# Altium integrated library TI Logic Multiplexer.IntLib: 724 symbols (part 3 of 16)
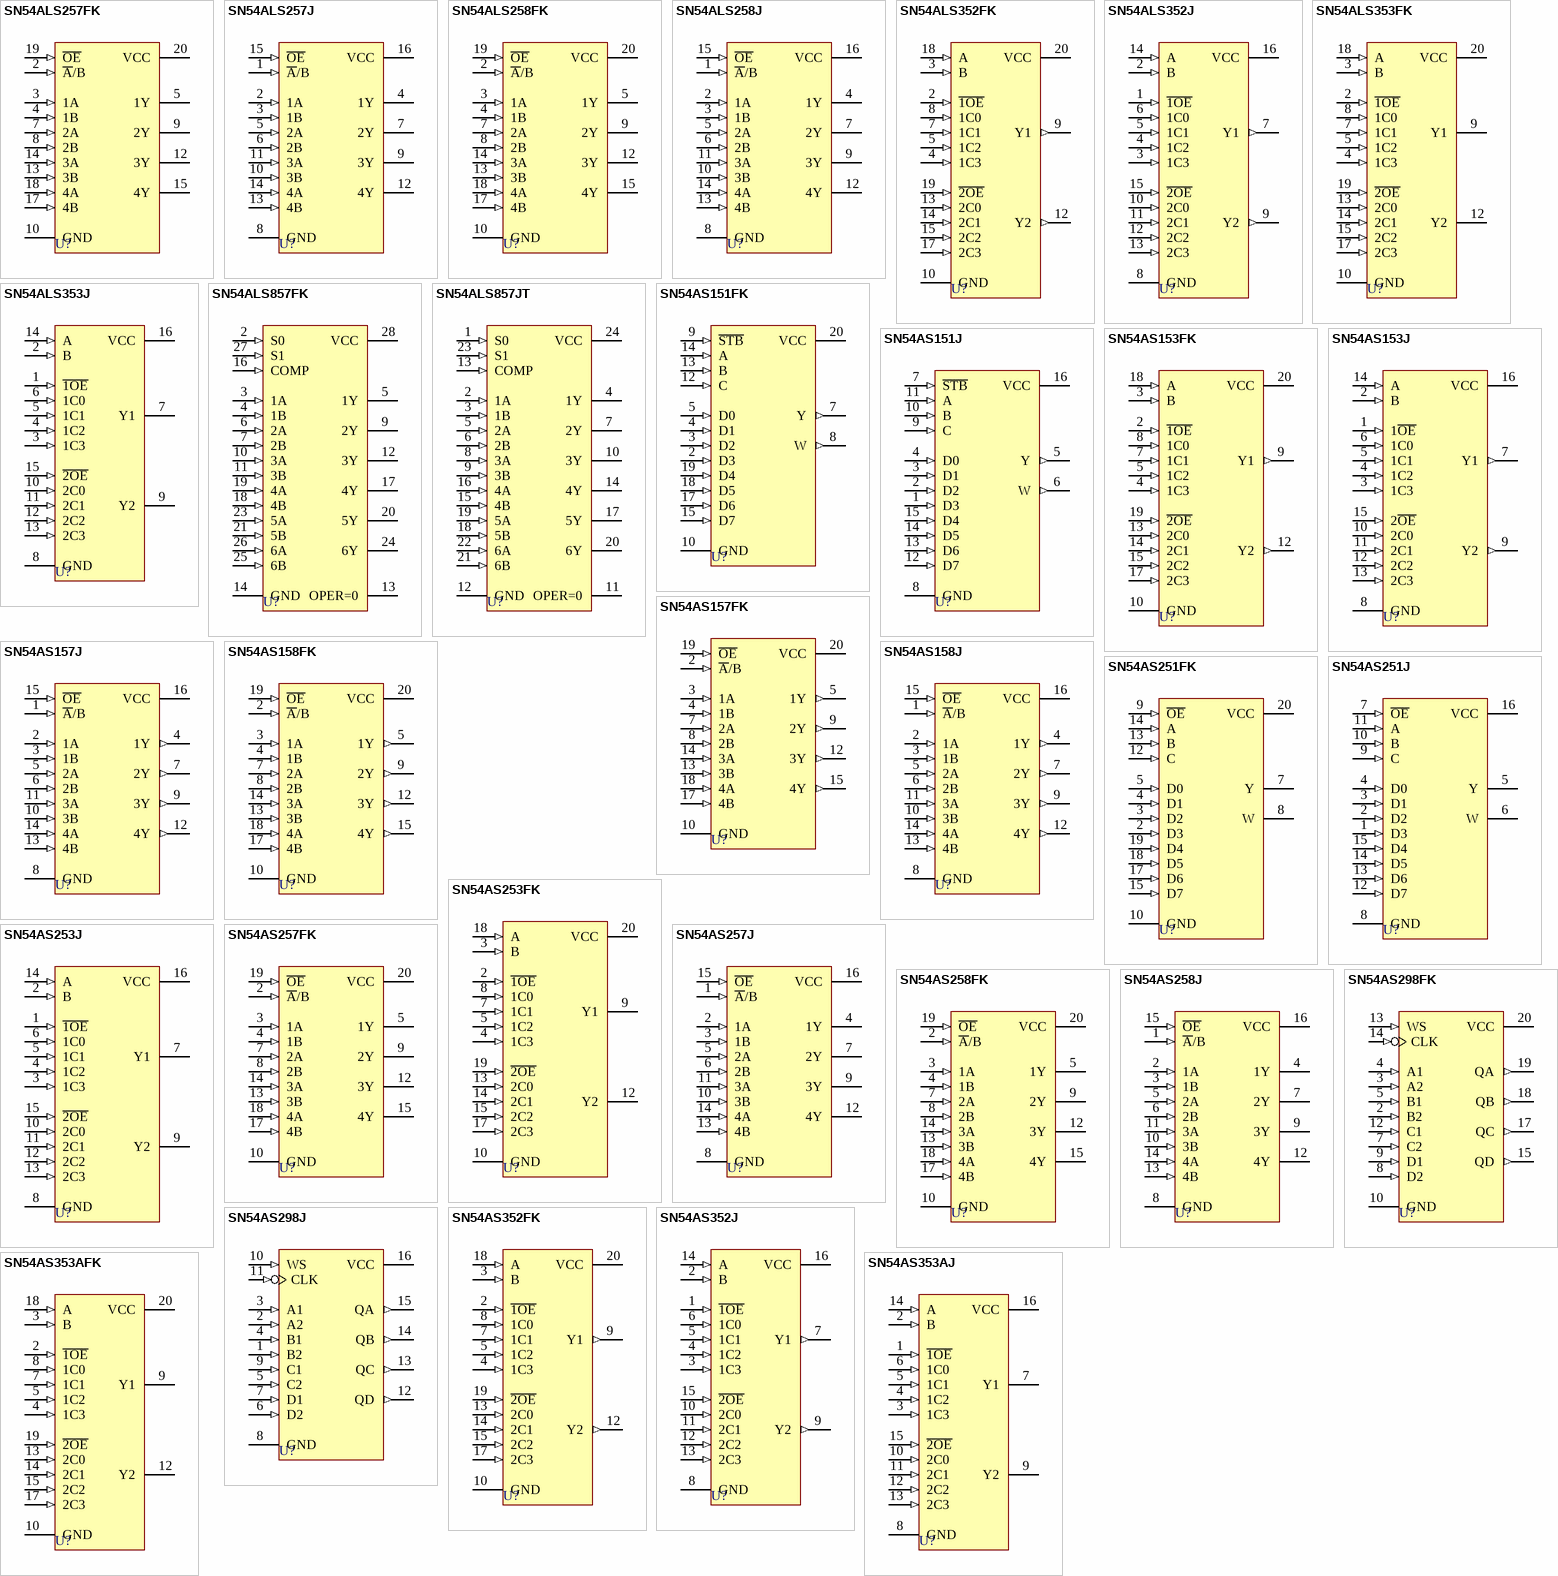
[diagram p26: symbols SN54ALS257FK to SN54AS353AJ]

## SN54AS151J
designator U?
1-of-8 Data Selector/Multiplexer; Published: 8-Jun-2000; LatestRevisionDate: 04-Mar-2005; LatestRevisionNote: Stylized 3D Model Added.; DatasheetVersion: May-1986; PackageVersion: Jun-1999; PackageReference: J016D; Publisher: Altium Limited; PackageDescription: DIP; 16 Leads; Row Spacing 7.62 mm; Pitch 2.54 mm; ComponentLink1Description: Manufacturer Link; ComponentLink1URL: http://www.ti.com/
footprint J016D (DIP; 16 Leads; Row Spacing 7.62 mm; Pitch 2.54 mm)
3D model J016 (DIP; 16 Leads; Row Spacing 7.62 mm; Pitch 2.54 mm)
signal-integrity model SN54AS151J
pins: 1 D3 (in), 2 D2 (in), 3 D1 (in), 4 D0 (in), 5 Y (out), 6 W (out), 7 ~{STB} (in), 8 GND (power), 9 C (in), 10 B (in), 11 A (in), 12 D7 (in), 13 D6 (in), 14 D5 (in), 15 D4 (in), 16 VCC (power)

## SN54AS153FK
designator U?
Dual 1-of-4 Data Selector/Multiplexer; Note: Pins 1, 6, 11 and 16 are not connected and not drawn; Published: 8-Jun-2000; LatestRevisionDate: 17-Jul-2002; LatestRevisionNote: Re-released for DXP Platform.; DatasheetVersion: May-1986; PackageVersion: 1998; PackageReference: FK020; Publisher: Altium Limited; PackageDescription: Leadless Chip Carrier; 20 Terminals; Body 8.9 x 8.9 mm; ComponentLink1Description: Manufacturer Link; ComponentLink1URL: http://www.ti.com/
footprint FK020 (Leadless Chip Carrier; 20 Terminals; Body 8.9 x 8.9 mm)
signal-integrity model SN54AS153FK
pins: 2 ~{1OE} (in), 3 B (in), 4 1C3 (in), 5 1C2 (in), 7 1C1 (in), 8 1C0 (in), 9 Y1 (out), 10 GND (power), 12 Y2 (out), 13 2C0 (in), 14 2C1 (in), 15 2C2 (in), 17 2C3 (in), 18 A (in), 19 ~{2OE} (in), 20 VCC (power)

## SN54AS153J
designator U?
Dual 1-of-4 Data Selector/Multiplexer; Published: 8-Jun-2000; LatestRevisionDate: 04-Mar-2005; LatestRevisionNote: Stylized 3D Model Added.; DatasheetVersion: May-1986; PackageVersion: Jun-1999; PackageReference: J016D; Publisher: Altium Limited; PackageDescription: DIP; 16 Leads; Row Spacing 7.62 mm; Pitch 2.54 mm; ComponentLink1Description: Manufacturer Link; ComponentLink1URL: http://www.ti.com/
footprint J016D (DIP; 16 Leads; Row Spacing 7.62 mm; Pitch 2.54 mm)
3D model J016 (DIP; 16 Leads; Row Spacing 7.62 mm; Pitch 2.54 mm)
signal-integrity model SN54AS153J
pins: 1 1~{OE} (in), 2 B (in), 3 1C3 (in), 4 1C2 (in), 5 1C1 (in), 6 1C0 (in), 7 Y1 (out), 8 GND (power), 9 Y2 (out), 10 2C0 (in), 11 2C1 (in), 12 2C2 (in), 13 2C3 (in), 14 A (in), 15 2~{OE} (in), 16 VCC (power)

## SN54AS157FK
designator U?
Quadruple 1-of-2 Data Selector/Multiplexer; Note: Pins 1, 6, 11 and 16 are not connected and not drawn; Published: 8-Jun-2000; LatestRevisionDate: 17-Jul-2002; LatestRevisionNote: Re-released for DXP Platform.; DatasheetVersion: May-1986; PackageVersion: 1998; PackageReference: FK020; Publisher: Altium Limited; PackageDescription: Leadless Chip Carrier; 20 Terminals; Body 8.9 x 8.9 mm; ComponentLink1Description: Manufacturer Link; ComponentLink1URL: http://www.ti.com/
footprint FK020 (Leadless Chip Carrier; 20 Terminals; Body 8.9 x 8.9 mm)
signal-integrity model SN54AS157FK
pins: 2 ~{A}/B (in), 3 1A (in), 4 1B (in), 5 1Y (out), 7 2A (in), 8 2B (in), 9 2Y (out), 10 GND (power), 12 3Y (out), 13 3B (in), 14 3A (in), 15 4Y (out), 17 4B (in), 18 4A (in), 19 ~{OE} (in), 20 VCC (power)

## SN54AS157J
designator U?
Quadruple 1-of-2 Data Selector/Multiplexer; Published: 8-Jun-2000; LatestRevisionDate: 04-Mar-2005; LatestRevisionNote: Stylized 3D Model Added.; DatasheetVersion: May-1986; PackageVersion: Jun-1999; PackageReference: J016D; Publisher: Altium Limited; PackageDescription: DIP; 16 Leads; Row Spacing 7.62 mm; Pitch 2.54 mm; ComponentLink1Description: Manufacturer Link; ComponentLink1URL: http://www.ti.com/
footprint J016D (DIP; 16 Leads; Row Spacing 7.62 mm; Pitch 2.54 mm)
3D model J016 (DIP; 16 Leads; Row Spacing 7.62 mm; Pitch 2.54 mm)
signal-integrity model SN54AS157J
pins: 1 ~{A}/B (in), 2 1A (in), 3 1B (in), 4 1Y (out), 5 2A (in), 6 2B (in), 7 2Y (out), 8 GND (power), 9 3Y (out), 10 3B (in), 11 3A (in), 12 4Y (out), 13 4B (in), 14 4A (in), 15 ~{OE} (in), 16 VCC (power)

## SN54AS158FK
designator U?
Quadruple 1-of-2 Data Selector/Multiplexer; Note: Pins 1, 6, 11 and 16 are not connected and not drawn; Published: 8-Jun-2000; LatestRevisionDate: 17-Jul-2002; LatestRevisionNote: Re-released for DXP Platform.; DatasheetVersion: May-1986; PackageVersion: 1998; PackageReference: FK020; Publisher: Altium Limited; PackageDescription: Leadless Chip Carrier; 20 Terminals; Body 8.9 x 8.9 mm; ComponentLink1Description: Manufacturer Link; ComponentLink1URL: http://www.ti.com/
footprint FK020 (Leadless Chip Carrier; 20 Terminals; Body 8.9 x 8.9 mm)
signal-integrity model SN54AS158FK
pins: 2 ~{A}/B (in), 3 1A (in), 4 1B (in), 5 1Y (out), 7 2A (in), 8 2B (in), 9 2Y (out), 10 GND (power), 12 3Y (out), 13 3B (in), 14 3A (in), 15 4Y (out), 17 4B (in), 18 4A (in), 19 ~{OE} (in), 20 VCC (power)

## SN54AS158J
designator U?
Quadruple 1-of-2 Data Selector/Multiplexer; Published: 8-Jun-2000; LatestRevisionDate: 04-Mar-2005; LatestRevisionNote: Stylized 3D Model Added.; DatasheetVersion: May-1986; PackageVersion: Jun-1999; PackageReference: J016D; Publisher: Altium Limited; PackageDescription: DIP; 16 Leads; Row Spacing 7.62 mm; Pitch 2.54 mm; ComponentLink1Description: Manufacturer Link; ComponentLink1URL: http://www.ti.com/
footprint J016D (DIP; 16 Leads; Row Spacing 7.62 mm; Pitch 2.54 mm)
3D model J016 (DIP; 16 Leads; Row Spacing 7.62 mm; Pitch 2.54 mm)
signal-integrity model SN54AS158J
pins: 1 ~{A}/B (in), 2 1A (in), 3 1B (in), 4 1Y (out), 5 2A (in), 6 2B (in), 7 2Y (out), 8 GND (power), 9 3Y (out), 10 3B (in), 11 3A (in), 12 4Y (out), 13 4B (in), 14 4A (in), 15 ~{OE} (in), 16 VCC (power)

## SN54AS251FK
designator U?
1-of-8 Data Selector/Multiplexer with 3-State Outputs; Note: Pins 1, 6, 11 and 16 are not connected and not drawn; Published: 8-Jun-2000; LatestRevisionDate: 17-Jul-2002; LatestRevisionNote: Re-released for DXP Platform.; DatasheetVersion: May-1986; PackageVersion: 1998; PackageReference: FK020; Publisher: Altium Limited; PackageDescription: Leadless Chip Carrier; 20 Terminals; Body 8.9 x 8.9 mm; ComponentLink1Description: Manufacturer Link; ComponentLink1URL: http://www.ti.com/
footprint FK020 (Leadless Chip Carrier; 20 Terminals; Body 8.9 x 8.9 mm)
signal-integrity model SN54AS251FK
pins: 2 D3 (in), 3 D2 (in), 4 D1 (in), 5 D0 (in), 7 Y (hiz), 8 W (hiz), 9 ~{OE} (in), 10 GND (power), 12 C (in), 13 B (in), 14 A (in), 15 D7 (in), 17 D6 (in), 18 D5 (in), 19 D4 (in), 20 VCC (power)

## SN54AS251J
designator U?
1-of-8 Data Selector/Multiplexer with 3-State Outputs; Published: 8-Jun-2000; LatestRevisionDate: 04-Mar-2005; LatestRevisionNote: Stylized 3D Model Added.; DatasheetVersion: May-1986; PackageVersion: Jun-1999; PackageReference: J016D; Publisher: Altium Limited; PackageDescription: DIP; 16 Leads; Row Spacing 7.62 mm; Pitch 2.54 mm; ComponentLink1Description: Manufacturer Link; ComponentLink1URL: http://www.ti.com/
footprint J016D (DIP; 16 Leads; Row Spacing 7.62 mm; Pitch 2.54 mm)
3D model J016 (DIP; 16 Leads; Row Spacing 7.62 mm; Pitch 2.54 mm)
signal-integrity model SN54AS251J
pins: 1 D3 (in), 2 D2 (in), 3 D1 (in), 4 D0 (in), 5 Y (hiz), 6 W (hiz), 7 ~{OE} (in), 8 GND (power), 9 C (in), 10 B (in), 11 A (in), 12 D7 (in), 13 D6 (in), 14 D5 (in), 15 D4 (in), 16 VCC (power)

## SN54AS253FK
designator U?
Dual 1-of-4 Data Selector/Multiplexer with 3-State Outputs; Note: Pins 1, 6, 11 and 16 are not connected and not drawn; Published: 8-Jun-2000; LatestRevisionDate: 17-Jul-2002; LatestRevisionNote: Re-released for DXP Platform.; DatasheetVersion: May-1986; PackageVersion: 1998; PackageReference: FK020; Publisher: Altium Limited; PackageDescription: Leadless Chip Carrier; 20 Terminals; Body 8.9 x 8.9 mm; ComponentLink1Description: Manufacturer Link; ComponentLink1URL: http://www.ti.com/
footprint FK020 (Leadless Chip Carrier; 20 Terminals; Body 8.9 x 8.9 mm)
signal-integrity model SN54AS253FK
pins: 2 ~{1OE} (in), 3 B (in), 4 1C3 (in), 5 1C2 (in), 7 1C1 (in), 8 1C0 (in), 9 Y1 (hiz), 10 GND (power), 12 Y2 (hiz), 13 2C0 (in), 14 2C1 (in), 15 2C2 (in), 17 2C3 (in), 18 A (in), 19 ~{2OE} (in), 20 VCC (power)

## SN54AS253J
designator U?
Dual 1-of-4 Data Selector/Multiplexer with 3-State Outputs; Published: 8-Jun-2000; LatestRevisionDate: 04-Mar-2005; LatestRevisionNote: Stylized 3D Model Added.; DatasheetVersion: May-1986; PackageVersion: Jun-1999; PackageReference: J016D; Publisher: Altium Limited; PackageDescription: DIP; 16 Leads; Row Spacing 7.62 mm; Pitch 2.54 mm; ComponentLink1Description: Manufacturer Link; ComponentLink1URL: http://www.ti.com/
footprint J016D (DIP; 16 Leads; Row Spacing 7.62 mm; Pitch 2.54 mm)
3D model J016 (DIP; 16 Leads; Row Spacing 7.62 mm; Pitch 2.54 mm)
signal-integrity model SN54AS253J
pins: 1 ~{1OE} (in), 2 B (in), 3 1C3 (in), 4 1C2 (in), 5 1C1 (in), 6 1C0 (in), 7 Y1 (hiz), 8 GND (power), 9 Y2 (hiz), 10 2C0 (in), 11 2C1 (in), 12 2C2 (in), 13 2C3 (in), 14 A (in), 15 ~{2OE} (in), 16 VCC (power)

## SN54AS257FK
designator U?
Quadruple 2-Line to 1-Line Data Selector/Multiplexer with 3-State Outputs; Note: Pins 1, 6, 11 and 16 are not connected and not drawn; Published: 8-Jun-2000; LatestRevisionDate: 17-Jul-2002; LatestRevisionNote: Re-released for DXP Platform.; DatasheetVersion: May-1986; PackageVersion: 1998; PackageReference: FK020; Publisher: Altium Limited; PackageDescription: Leadless Chip Carrier; 20 Terminals; Body 8.9 x 8.9 mm; ComponentLink1Description: Manufacturer Link; ComponentLink1URL: http://www.ti.com/
footprint FK020 (Leadless Chip Carrier; 20 Terminals; Body 8.9 x 8.9 mm)
signal-integrity model SN54AS257FK
pins: 2 ~{A}/B (in), 3 1A (in), 4 1B (in), 5 1Y (hiz), 7 2A (in), 8 2B (in), 9 2Y (hiz), 10 GND (power), 12 3Y (hiz), 13 3B (in), 14 3A (in), 15 4Y (hiz), 17 4B (in), 18 4A (in), 19 ~{OE} (in), 20 VCC (power)

## SN54AS257J
designator U?
Quadruple 2-Line to 1-Line Data Selector/Multiplexer with 3-State Outputs; Published: 8-Jun-2000; LatestRevisionDate: 04-Mar-2005; LatestRevisionNote: Stylized 3D Model Added.; DatasheetVersion: May-1986; PackageVersion: Jun-1999; PackageReference: J016D; Publisher: Altium Limited; PackageDescription: DIP; 16 Leads; Row Spacing 7.62 mm; Pitch 2.54 mm; ComponentLink1Description: Manufacturer Link; ComponentLink1URL: http://www.ti.com/
footprint J016D (DIP; 16 Leads; Row Spacing 7.62 mm; Pitch 2.54 mm)
3D model J016 (DIP; 16 Leads; Row Spacing 7.62 mm; Pitch 2.54 mm)
signal-integrity model SN54AS257J
pins: 1 ~{A}/B (in), 2 1A (in), 3 1B (in), 4 1Y (hiz), 5 2A (in), 6 2B (in), 7 2Y (hiz), 8 GND (power), 9 3Y (hiz), 10 3B (in), 11 3A (in), 12 4Y (hiz), 13 4B (in), 14 4A (in), 15 ~{OE} (in), 16 VCC (power)

## SN54AS258FK
designator U?
Quadruple 2-Line to 1-Line Data Selector/Multiplexer with 3-State Outputs; Note: Pins No 1,6,11 and 16 are not connected; Published: 8-Jun-2000; LatestRevisionDate: 17-Jul-2002; LatestRevisionNote: Re-released for DXP Platform.; DatasheetVersion: May-1986; PackageVersion: 1998; PackageReference: FK020; Publisher: Altium Limited; PackageDescription: Leadless Chip Carrier; 20 Terminals; Body 8.9 x 8.9 mm; ComponentLink1Description: Manufacturer Link; ComponentLink1URL: http://www.ti.com/
footprint FK020 (Leadless Chip Carrier; 20 Terminals; Body 8.9 x 8.9 mm)
signal-integrity model SN54AS258FK
pins: 2 ~{A}/B (in), 3 1A (in), 4 1B (in), 5 1Y (hiz), 7 2A (in), 8 2B (in), 9 2Y (hiz), 10 GND (power), 12 3Y (hiz), 13 3B (in), 14 3A (in), 15 4Y (hiz), 17 4B (in), 18 4A (in), 19 ~{OE} (in), 20 VCC (power)

## SN54AS258J
designator U?
Quadruple 2-Line to 1-Line Data Selector/Multiplexer with 3-State Outputs; Published: 8-Jun-2000; LatestRevisionDate: 04-Mar-2005; LatestRevisionNote: Stylized 3D Model Added.; DatasheetVersion: May-1986; PackageVersion: Jun-1999; PackageReference: J016D; Publisher: Altium Limited; PackageDescription: DIP; 16 Leads; Row Spacing 7.62 mm; Pitch 2.54 mm; ComponentLink1Description: Manufacturer Link; ComponentLink1URL: http://www.ti.com/
footprint J016D (DIP; 16 Leads; Row Spacing 7.62 mm; Pitch 2.54 mm)
3D model J016 (DIP; 16 Leads; Row Spacing 7.62 mm; Pitch 2.54 mm)
signal-integrity model SN54AS258J
pins: 1 ~{A}/B (in), 2 1A (in), 3 1B (in), 4 1Y (hiz), 5 2A (in), 6 2B (in), 7 2Y (hiz), 8 GND (power), 9 3Y (hiz), 10 3B (in), 11 3A (in), 12 4Y (hiz), 13 4B (in), 14 4A (in), 15 ~{OE} (in), 16 VCC (power)

## SN54AS298FK
designator U?
Quadruple 2-Input Multiplexer with Storage; Note: Pins 1, 6, 11 and 16 are not connected and not drawn; Published: 8-Jun-2000; LatestRevisionDate: 17-Jul-2002; LatestRevisionNote: Re-released for DXP Platform.; DatasheetVersion: May-1986; PackageVersion: 1998; PackageReference: FK020; Publisher: Altium Limited; PackageDescription: Leadless Chip Carrier; 20 Terminals; Body 8.9 x 8.9 mm; ComponentLink1Description: Manufacturer Link; ComponentLink1URL: http://www.ti.com/
footprint FK020 (Leadless Chip Carrier; 20 Terminals; Body 8.9 x 8.9 mm)
signal-integrity model SN54AS298FK
pins: 2 B2 (in), 3 A2 (in), 4 A1 (in), 5 B1 (in), 7 C2 (in), 8 D2 (in), 9 D1 (in), 10 GND (power), 12 C1 (in), 13 WS (in), 14 CLK (in), 15 QD (out), 17 QC (out), 18 QB (out), 19 QA (out), 20 VCC (power)

## SN54AS298J
designator U?
Quadruple 2-Input Multiplexer with Storage; Published: 8-Jun-2000; LatestRevisionDate: 04-Mar-2005; LatestRevisionNote: Stylized 3D Model Added.; DatasheetVersion: May-1986; PackageVersion: Jun-1999; PackageReference: J016D; Publisher: Altium Limited; PackageDescription: DIP; 16 Leads; Row Spacing 7.62 mm; Pitch 2.54 mm; ComponentLink1Description: Manufacturer Link; ComponentLink1URL: http://www.ti.com/
footprint J016D (DIP; 16 Leads; Row Spacing 7.62 mm; Pitch 2.54 mm)
3D model J016 (DIP; 16 Leads; Row Spacing 7.62 mm; Pitch 2.54 mm)
signal-integrity model SN54AS298J
pins: 1 B2 (in), 2 A2 (in), 3 A1 (in), 4 B1 (in), 5 C2 (in), 6 D2 (in), 7 D1 (in), 8 GND (power), 9 C1 (in), 10 WS (in), 11 CLK (in), 12 QD (out), 13 QC (out), 14 QB (out), 15 QA (out), 16 VCC (power)

## SN54AS352FK
designator U?
Dual 4-Line to 1-Line Data Selector/Multiplexer; Note: Pins 1, 6, 11 and 16 are not connected and not drawn; Published: 8-Jun-2000; LatestRevisionDate: 17-Jul-2002; LatestRevisionNote: Re-released for DXP Platform.; DatasheetVersion: May-1986; PackageVersion: 1998; PackageReference: FK020; Publisher: Altium Limited; PackageDescription: Leadless Chip Carrier; 20 Terminals; Body 8.9 x 8.9 mm; ComponentLink1Description: Manufacturer Link; ComponentLink1URL: http://www.ti.com/
footprint FK020 (Leadless Chip Carrier; 20 Terminals; Body 8.9 x 8.9 mm)
signal-integrity model SN54AS352FK
pins: 2 ~{1OE} (in), 3 B (in), 4 1C3 (in), 5 1C2 (in), 7 1C1 (in), 8 1C0 (in), 9 Y1 (out), 10 GND (power), 12 Y2 (out), 13 2C0 (in), 14 2C1 (in), 15 2C2 (in), 17 2C3 (in), 18 A (in), 19 ~{2OE} (in), 20 VCC (power)

## SN54AS352J
designator U?
Dual 4-Line to 1-Line Data Selector/Multiplexer; Published: 8-Jun-2000; LatestRevisionDate: 04-Mar-2005; LatestRevisionNote: Stylized 3D Model Added.; DatasheetVersion: May-1986; PackageVersion: Jun-1999; PackageReference: J016D; Publisher: Altium Limited; PackageDescription: DIP; 16 Leads; Row Spacing 7.62 mm; Pitch 2.54 mm; ComponentLink1Description: Manufacturer Link; ComponentLink1URL: http://www.ti.com/
footprint J016D (DIP; 16 Leads; Row Spacing 7.62 mm; Pitch 2.54 mm)
3D model J016 (DIP; 16 Leads; Row Spacing 7.62 mm; Pitch 2.54 mm)
signal-integrity model SN54AS352J
pins: 1 ~{1OE} (in), 2 B (in), 3 1C3 (in), 4 1C2 (in), 5 1C1 (in), 6 1C0 (in), 7 Y1 (out), 8 GND (power), 9 Y2 (out), 10 2C0 (in), 11 2C1 (in), 12 2C2 (in), 13 2C3 (in), 14 A (in), 15 ~{2OE} (in), 16 VCC (power)

## SN54AS353AFK
designator U?
Dual 1-of-4 Data Selector/Multiplexer with 3-State Outputs; Note: Pins 1, 6, 11 and 16 are not connected and not drawn; Published: 8-Jun-2000; LatestRevisionDate: 17-Jul-2002; LatestRevisionNote: Re-released for DXP Platform.; DatasheetVersion: May-1986; PackageVersion: 1998; PackageReference: FK020; Publisher: Altium Limited; PackageDescription: Leadless Chip Carrier; 20 Terminals; Body 8.9 x 8.9 mm; ComponentLink1Description: Manufacturer Link; ComponentLink1URL: http://www.ti.com/
footprint FK020 (Leadless Chip Carrier; 20 Terminals; Body 8.9 x 8.9 mm)
signal-integrity model SN54AS353AFK
pins: 2 ~{1OE} (in), 3 B (in), 4 1C3 (in), 5 1C2 (in), 7 1C1 (in), 8 1C0 (in), 9 Y1 (hiz), 10 GND (power), 12 Y2 (hiz), 13 2C0 (in), 14 2C1 (in), 15 2C2 (in), 17 2C3 (in), 18 A (in), 19 ~{2OE} (in), 20 VCC (power)

## SN54AS353AJ
designator U?
Dual 1-of-4 Data Selector/Multiplexer with 3-State Outputs; Published: 8-Jun-2000; LatestRevisionDate: 04-Mar-2005; LatestRevisionNote: Stylized 3D Model Added.; DatasheetVersion: May-1986; PackageVersion: Jun-1999; PackageReference: J016D; Publisher: Altium Limited; PackageDescription: DIP; 16 Leads; Row Spacing 7.62 mm; Pitch 2.54 mm; ComponentLink1Description: Manufacturer Link; ComponentLink1URL: http://www.ti.com/
footprint J016D (DIP; 16 Leads; Row Spacing 7.62 mm; Pitch 2.54 mm)
3D model J016 (DIP; 16 Leads; Row Spacing 7.62 mm; Pitch 2.54 mm)
signal-integrity model SN54AS353AJ
pins: 1 ~{1OE} (in), 2 B (in), 3 1C3 (in), 4 1C2 (in), 5 1C1 (in), 6 1C0 (in), 7 Y1 (hiz), 8 GND (power), 9 Y2 (hiz), 10 2C0 (in), 11 2C1 (in), 12 2C2 (in), 13 2C3 (in), 14 A (in), 15 ~{2OE} (in), 16 VCC (power)

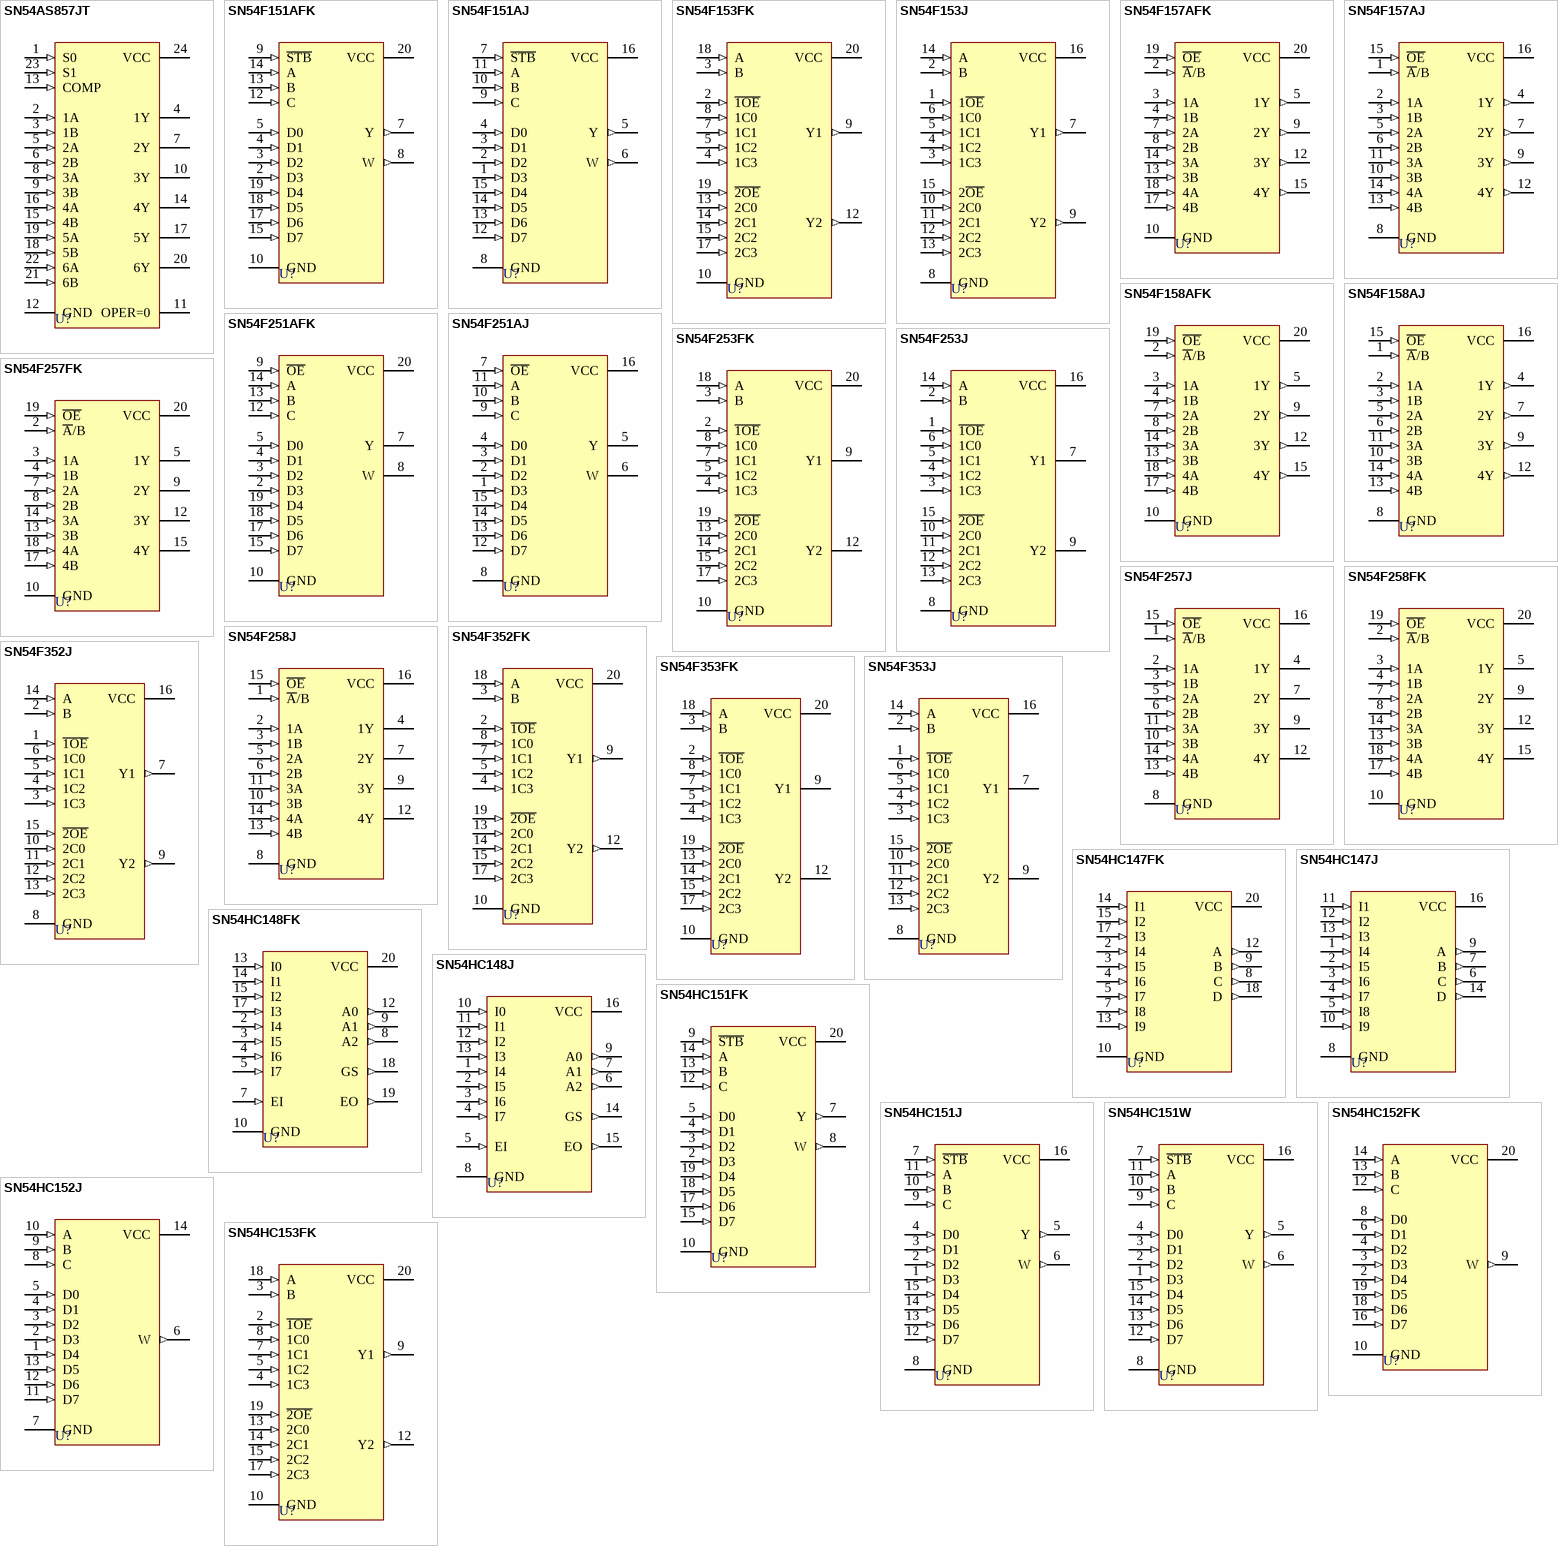
[diagram p4: symbols SN54AS857JT to SN54HC153FK]

## SN54AS857JT
designator U?
Hex 2-to-1 Universal Multiplexer; Published: 8-Jun-2000; LatestRevisionDate: 04-Mar-2005; LatestRevisionNote: Stylized 3D Model Added.; DatasheetVersion: May-1986; PackageVersion: Jan-1997; PackageReference: JT024D; Publisher: Altium Limited; PackageDescription: DIP; 24 Leads; Row Spacing 7.62 mm; Pitch 2.54 mm; Code_JEDEC: MS-001-AF; ComponentLink1Description: Manufacturer Link; ComponentLink1URL: http://www.ti.com/
footprint JT024D (DIP; 24 Leads; Row Spacing 7.62 mm; Pitch 2.54 mm)
3D model JT024 (DIP; 24 Leads; Row Spacing 7.62 mm; Pitch 2.54 mm)
signal-integrity model SN54AS857JT
pins: 1 S0 (in), 2 1A (in), 3 1B (in), 4 1Y (hiz), 5 2A (in), 6 2B (in), 7 2Y (hiz), 8 3A (in), 9 3B (in), 10 3Y (hiz), 11 OPER=0 (hiz), 12 GND (power), 13 COMP (in), 14 4Y (hiz), 15 4B (in), 16 4A (in), 17 5Y (hiz), 18 5B (in), 19 5A (in), 20 6Y (hiz), 21 6B (in), 22 6A (in), 23 S1 (in), 24 VCC (power)

## SN54F151AFK
designator U?
1-of-8 Data Selector/Multiplexer; Note: Pins 1, 6, 11 and 16 are NC & not drawn.; Published: 8-Jun-2000; LatestRevisionDate: 17-Jul-2002; LatestRevisionNote: Re-released for DXP Platform.; DatasheetVersion: Jan-1989; PackageVersion: 1998; PackageReference: FK020; Publisher: Altium Limited; PackageDescription: Leadless Chip Carrier; 20 Terminals; Body 8.9 x 8.9 mm; ComponentLink1Description: Manufacturer Link; ComponentLink1URL: http://www.ti.com/
footprint FK020 (Leadless Chip Carrier; 20 Terminals; Body 8.9 x 8.9 mm)
simulation model SN74F151A (SIMCODE)
signal-integrity model SN54F151AFK
pins: 2 D3 (in), 3 D2 (in), 4 D1 (in), 5 D0 (in), 7 Y (out), 8 W (out), 9 ~{STB} (in), 10 GND (power), 12 C (in), 13 B (in), 14 A (in), 15 D7 (in), 17 D6 (in), 18 D5 (in), 19 D4 (in), 20 VCC (power)

## SN54F151AJ
designator U?
1-of-8 Data Selector/Multiplexer; Published: 8-Jun-2000; LatestRevisionDate: 04-Mar-2005; LatestRevisionNote: Stylized 3D Model Added.; DatasheetVersion: Jan-1989; PackageVersion: Jun-1999; PackageReference: J016D; Publisher: Altium Limited; PackageDescription: DIP; 16 Leads; Row Spacing 7.62 mm; Pitch 2.54 mm; ComponentLink1Description: Manufacturer Link; ComponentLink1URL: http://www.ti.com/
footprint J016D (DIP; 16 Leads; Row Spacing 7.62 mm; Pitch 2.54 mm)
3D model J016 (DIP; 16 Leads; Row Spacing 7.62 mm; Pitch 2.54 mm)
simulation model SN74F151A (SIMCODE)
signal-integrity model SN54F151AJ
pins: 1 D3 (in), 2 D2 (in), 3 D1 (in), 4 D0 (in), 5 Y (out), 6 W (out), 7 ~{STB} (in), 8 GND (power), 9 C (in), 10 B (in), 11 A (in), 12 D7 (in), 13 D6 (in), 14 D5 (in), 15 D4 (in), 16 VCC (power)

## SN54F153FK
designator U?
Dual 1-of-4 Data Selector/Multiplexer; Note: Pins 1, 6, 11 and 16 are not connected and not drawn; Published: 8-Jun-2000; LatestRevisionDate: 17-Jul-2002; LatestRevisionNote: Re-released for DXP Platform.; DatasheetVersion: Oct-1993; PackageVersion: 1998; PackageReference: FK020; Publisher: Altium Limited; PackageDescription: Leadless Chip Carrier; 20 Terminals; Body 8.9 x 8.9 mm; ComponentLink1Description: Manufacturer Link; ComponentLink1URL: http://www.ti.com/; ComponentLink2Description: Datasheet; ComponentLink2URL: http://www-s.ti.com/sc/ds/sn74f153.pdf
footprint FK020 (Leadless Chip Carrier; 20 Terminals; Body 8.9 x 8.9 mm)
signal-integrity model SN54F153FK
pins: 2 ~{1OE} (in), 3 B (in), 4 1C3 (in), 5 1C2 (in), 7 1C1 (in), 8 1C0 (in), 9 Y1 (out), 10 GND (power), 12 Y2 (out), 13 2C0 (in), 14 2C1 (in), 15 2C2 (in), 17 2C3 (in), 18 A (in), 19 ~{2OE} (in), 20 VCC (power)

## SN54F153J
designator U?
Dual 1-of-4 Data Selector/Multiplexer; Published: 8-Jun-2000; LatestRevisionDate: 04-Mar-2005; LatestRevisionNote: Stylized 3D Model Added.; DatasheetVersion: Oct-1993; PackageVersion: Jun-1999; PackageReference: J016; Publisher: Altium Limited; PackageDescription: DIP; 16 Leads; Row Spacing 7.62 mm; Pitch 2.54 mm; ComponentLink1Description: Manufacturer Link; ComponentLink1URL: http://www.ti.com/; ComponentLink2Description: Datasheet; ComponentLink2URL: http://www-s.ti.com/sc/ds/sn74f153.pdf
footprint J016 (DIP; 16 Leads; Row Spacing 7.62 mm; Pitch 2.54 mm)
3D model J016 (DIP; 16 Leads; Row Spacing 7.62 mm; Pitch 2.54 mm)
signal-integrity model SN54F153J
pins: 1 1~{OE} (in), 2 B (in), 3 1C3 (in), 4 1C2 (in), 5 1C1 (in), 6 1C0 (in), 7 Y1 (out), 8 GND (power), 9 Y2 (out), 10 2C0 (in), 11 2C1 (in), 12 2C2 (in), 13 2C3 (in), 14 A (in), 15 2~{OE} (in), 16 VCC (power)

## SN54F157AFK
designator U?
Quadruple 2-Line to 1-Line Data Selector/Multiplexer; Note: Pins 1, 6, 11 and 16 are NC & not drawn.; Published: 8-Jun-2000; LatestRevisionDate: 17-Jul-2002; LatestRevisionNote: Re-released for DXP Platform.; DatasheetVersion: Oct-1993; PackageVersion: 1998; PackageReference: FK020; Publisher: Altium Limited; PackageDescription: Leadless Chip Carrier; 20 Terminals; Body 8.9 x 8.9 mm; ComponentLink1Description: Manufacturer Link; ComponentLink1URL: http://www.ti.com/; ComponentLink2Description: Datasheet; ComponentLink2URL: http://www-s.ti.com/sc/ds/sn74f157a.pdf
footprint FK020 (Leadless Chip Carrier; 20 Terminals; Body 8.9 x 8.9 mm)
simulation model SN74F157A (SIMCODE)
signal-integrity model SN54F157AFK
pins: 2 ~{A}/B (in), 3 1A (in), 4 1B (in), 5 1Y (out), 7 2A (in), 8 2B (in), 9 2Y (out), 10 GND (power), 12 3Y (out), 13 3B (in), 14 3A (in), 15 4Y (out), 17 4B (in), 18 4A (in), 19 ~{OE} (in), 20 VCC (power)

## SN54F157AJ
designator U?
Quadruple 2-Line to 1-Line Data Selector/Multiplexer; Published: 8-Jun-2000; LatestRevisionDate: 04-Mar-2005; LatestRevisionNote: Stylized 3D Model Added.; DatasheetVersion: Oct-1993; PackageVersion: Jun-1999; PackageReference: J016; Publisher: Altium Limited; PackageDescription: DIP; 16 Leads; Row Spacing 7.62 mm; Pitch 2.54 mm; ComponentLink1Description: Manufacturer Link; ComponentLink1URL: http://www.ti.com/; ComponentLink2Description: Datasheet; ComponentLink2URL: http://www-s.ti.com/sc/ds/sn74f157a.pdf
footprint J016 (DIP; 16 Leads; Row Spacing 7.62 mm; Pitch 2.54 mm)
3D model J016 (DIP; 16 Leads; Row Spacing 7.62 mm; Pitch 2.54 mm)
simulation model SN74F157A (SIMCODE)
signal-integrity model SN54F157AJ
pins: 1 ~{A}/B (in), 2 1A (in), 3 1B (in), 4 1Y (out), 5 2A (in), 6 2B (in), 7 2Y (out), 8 GND (power), 9 3Y (out), 10 3B (in), 11 3A (in), 12 4Y (out), 13 4B (in), 14 4A (in), 15 ~{OE} (in), 16 VCC (power)

## SN54F158AFK
designator U?
Quadruple 2-Line to 1-Line Data Selector/Multiplexer; Note: Pins 1, 6, 11 and 16 are NC & not drawn.; ComponentAvailability: Not Available; Published: 8-Jun-2000; LatestRevisionDate: 17-Jul-2002; LatestRevisionNote: Re-released for DXP Platform.; DatasheetVersion: Jan-1989; PackageVersion: 1998; PackageReference: FK020; Publisher: Altium Limited; PackageDescription: Leadless Chip Carrier; 20 Terminals; Body 8.9 x 8.9 mm; ComponentLink1Description: Manufacturer Link; ComponentLink1URL: http://www.ti.com/; ComponentLink2Description: Datasheet; ComponentLink2URL: http://www-s.ti.com/sc/ds/sn74f158a.pdf; ComponentLink3Description: Discontinuation Notice; ComponentLink3URL: http://focus.ti.com/pdfs/mltry/obsolete.pdf
footprint FK020 (Leadless Chip Carrier; 20 Terminals; Body 8.9 x 8.9 mm)
simulation model SN74F158A (SIMCODE)
signal-integrity model SN54F158AFK
pins: 2 ~{A}/B (in), 3 1A (in), 4 1B (in), 5 1Y (out), 7 2A (in), 8 2B (in), 9 2Y (out), 10 GND (power), 12 3Y (out), 13 3B (in), 14 3A (in), 15 4Y (out), 17 4B (in), 18 4A (in), 19 ~{OE} (in), 20 VCC (power)

## SN54F158AJ
designator U?
Quadruple 2-Line to 1-Line Data Selector/Multiplexer; ComponentAvailability: Not Available; Published: 8-Jun-2000; LatestRevisionDate: 04-Mar-2005; LatestRevisionNote: Stylized 3D Model Added.; DatasheetVersion: Jan-1989; PackageVersion: Jun-1999; PackageReference: J016D; Publisher: Altium Limited; PackageDescription: DIP; 16 Leads; Row Spacing 7.62 mm; Pitch 2.54 mm; ComponentLink1Description: Manufacturer Link; ComponentLink1URL: http://www.ti.com/; ComponentLink2Description: Datasheet; ComponentLink2URL: http://www-s.ti.com/sc/ds/sn74f158a.pdf; ComponentLink3Description: Discontinuation Notice; ComponentLink3URL: http://focus.ti.com/pdfs/mltry/obsolete.pdf
footprint J016D (DIP; 16 Leads; Row Spacing 7.62 mm; Pitch 2.54 mm)
3D model J016 (DIP; 16 Leads; Row Spacing 7.62 mm; Pitch 2.54 mm)
simulation model SN74F158A (SIMCODE)
signal-integrity model SN54F158AJ
pins: 1 ~{A}/B (in), 2 1A (in), 3 1B (in), 4 1Y (out), 5 2A (in), 6 2B (in), 7 2Y (out), 8 GND (power), 9 3Y (out), 10 3B (in), 11 3A (in), 12 4Y (out), 13 4B (in), 14 4A (in), 15 ~{OE} (in), 16 VCC (power)

## SN54F251AFK
designator U?
1-of-8 Data Selector/Multiplexer with 3-State Outputs; Note: Pins 1, 6, 11 and 16 are NC & not drawn.; Published: 8-Jun-2000; LatestRevisionDate: 17-Jul-2002; LatestRevisionNote: Re-released for DXP Platform.; DatasheetVersion: Jan-1989; PackageVersion: 1998; PackageReference: FK020; Publisher: Altium Limited; PackageDescription: Leadless Chip Carrier; 20 Terminals; Body 8.9 x 8.9 mm; ComponentLink1Description: Manufacturer Link; ComponentLink1URL: http://www.ti.com/
footprint FK020 (Leadless Chip Carrier; 20 Terminals; Body 8.9 x 8.9 mm)
simulation model SN74F251A (SIMCODE)
signal-integrity model SN54F251AFK
pins: 2 D3 (in), 3 D2 (in), 4 D1 (in), 5 D0 (in), 7 Y (hiz), 8 W (hiz), 9 ~{OE} (in), 10 GND (power), 12 C (in), 13 B (in), 14 A (in), 15 D7 (in), 17 D6 (in), 18 D5 (in), 19 D4 (in), 20 VCC (power)

## SN54F251AJ
designator U?
1-of-8 Data Selector/Multiplexer with 3-State Outputs; Published: 8-Jun-2000; LatestRevisionDate: 04-Mar-2005; LatestRevisionNote: Stylized 3D Model Added.; DatasheetVersion: Jan-1989; PackageVersion: Jun-1999; PackageReference: J016D; Publisher: Altium Limited; PackageDescription: DIP; 16 Leads; Row Spacing 7.62 mm; Pitch 2.54 mm; ComponentLink1Description: Manufacturer Link; ComponentLink1URL: http://www.ti.com/
footprint J016D (DIP; 16 Leads; Row Spacing 7.62 mm; Pitch 2.54 mm)
3D model J016 (DIP; 16 Leads; Row Spacing 7.62 mm; Pitch 2.54 mm)
simulation model SN74F251A (SIMCODE)
signal-integrity model SN54F251AJ
pins: 1 D3 (in), 2 D2 (in), 3 D1 (in), 4 D0 (in), 5 Y (hiz), 6 W (hiz), 7 ~{OE} (in), 8 GND (power), 9 C (in), 10 B (in), 11 A (in), 12 D7 (in), 13 D6 (in), 14 D5 (in), 15 D4 (in), 16 VCC (power)

## SN54F253FK
designator U?
Dual 1-of-4 Data Selector/Multiplexer with 3-State Outputs; Note: Pins 1, 6, 11 and 16 are NC & not drawn.; Published: 8-Jun-2000; LatestRevisionDate: 17-Jul-2002; LatestRevisionNote: Re-released for DXP Platform.; DatasheetVersion: Oct-1993; PackageVersion: 1998; PackageReference: FK020; Publisher: Altium Limited; PackageDescription: Leadless Chip Carrier; 20 Terminals; Body 8.9 x 8.9 mm; ComponentLink1Description: Manufacturer Link; ComponentLink1URL: http://www.ti.com/; ComponentLink2Description: Datasheet; ComponentLink2URL: http://www-s.ti.com/sc/ds/sn74f253.pdf
footprint FK020 (Leadless Chip Carrier; 20 Terminals; Body 8.9 x 8.9 mm)
simulation model SN74F253 (SIMCODE)
signal-integrity model SN54F253FK
pins: 2 ~{1OE} (in), 3 B (in), 4 1C3 (in), 5 1C2 (in), 7 1C1 (in), 8 1C0 (in), 9 Y1 (hiz), 10 GND (power), 12 Y2 (hiz), 13 2C0 (in), 14 2C1 (in), 15 2C2 (in), 17 2C3 (in), 18 A (in), 19 ~{2OE} (in), 20 VCC (power)

## SN54F253J
designator U?
Dual 1-of-4 Data Selector/Multiplexer with 3-State Outputs; Published: 8-Jun-2000; LatestRevisionDate: 04-Mar-2005; LatestRevisionNote: Stylized 3D Model Added.; DatasheetVersion: Oct-1993; PackageVersion: Jun-1999; PackageReference: J016; Publisher: Altium Limited; PackageDescription: DIP; 16 Leads; Row Spacing 7.62 mm; Pitch 2.54 mm; ComponentLink1Description: Manufacturer Link; ComponentLink1URL: http://www.ti.com/; ComponentLink2Description: Datasheet; ComponentLink2URL: http://www-s.ti.com/sc/ds/sn74f253.pdf
footprint J016 (DIP; 16 Leads; Row Spacing 7.62 mm; Pitch 2.54 mm)
3D model J016 (DIP; 16 Leads; Row Spacing 7.62 mm; Pitch 2.54 mm)
simulation model SN74F253 (SIMCODE)
signal-integrity model SN54F253J
pins: 1 ~{1OE} (in), 2 B (in), 3 1C3 (in), 4 1C2 (in), 5 1C1 (in), 6 1C0 (in), 7 Y1 (hiz), 8 GND (power), 9 Y2 (hiz), 10 2C0 (in), 11 2C1 (in), 12 2C2 (in), 13 2C3 (in), 14 A (in), 15 ~{2OE} (in), 16 VCC (power)

## SN54F257FK
designator U?
Quadruple 2-Line to 1-Line Data Selector/Multiplexer with 3-State Outputs; Note: Pins 1, 6, 11 and 16 are NC & not drawn.; Published: 8-Jun-2000; LatestRevisionDate: 17-Jul-2002; LatestRevisionNote: Re-released for DXP Platform.; DatasheetVersion: Jan-1989; PackageVersion: 1998; PackageReference: FK020; Publisher: Altium Limited; PackageDescription: Leadless Chip Carrier; 20 Terminals; Body 8.9 x 8.9 mm; ComponentLink1Description: Manufacturer Link; ComponentLink1URL: http://www.ti.com/; ComponentLink2Description: Datasheet; ComponentLink2URL: http://www-s.ti.com/sc/ds/sn74f257.pdf
footprint FK020 (Leadless Chip Carrier; 20 Terminals; Body 8.9 x 8.9 mm)
simulation model SN74F257 (SIMCODE)
signal-integrity model SN54F257FK
pins: 2 ~{A}/B (in), 3 1A (in), 4 1B (in), 5 1Y (hiz), 7 2A (in), 8 2B (in), 9 2Y (hiz), 10 GND (power), 12 3Y (hiz), 13 3B (in), 14 3A (in), 15 4Y (hiz), 17 4B (in), 18 4A (in), 19 ~{OE} (in), 20 VCC (power)

## SN54F257J
designator U?
Quadruple 2-Line to 1-Line Data Selector/Multiplexer with 3-State Outputs; Published: 8-Jun-2000; LatestRevisionDate: 04-Mar-2005; LatestRevisionNote: Stylized 3D Model Added.; DatasheetVersion: Jan-1989; PackageVersion: Jun-1999; PackageReference: J016D; Publisher: Altium Limited; PackageDescription: DIP; 16 Leads; Row Spacing 7.62 mm; Pitch 2.54 mm; ComponentLink1Description: Manufacturer Link; ComponentLink1URL: http://www.ti.com/; ComponentLink2Description: Datasheet; ComponentLink2URL: http://www-s.ti.com/sc/ds/sn74f257.pdf
footprint J016D (DIP; 16 Leads; Row Spacing 7.62 mm; Pitch 2.54 mm)
3D model J016 (DIP; 16 Leads; Row Spacing 7.62 mm; Pitch 2.54 mm)
simulation model SN74F257 (SIMCODE)
signal-integrity model SN54F257J
pins: 1 ~{A}/B (in), 2 1A (in), 3 1B (in), 4 1Y (hiz), 5 2A (in), 6 2B (in), 7 2Y (hiz), 8 GND (power), 9 3Y (hiz), 10 3B (in), 11 3A (in), 12 4Y (hiz), 13 4B (in), 14 4A (in), 15 ~{OE} (in), 16 VCC (power)

## SN54F258FK
designator U?
Quadruple 1-of-2 Data Selector/Multiplexer with 3-State Outputs; Note: Pins 1, 6, 11 and 16 are NC.; Published: 8-Jun-2000; LatestRevisionDate: 17-Jul-2002; LatestRevisionNote: Re-released for DXP Platform.; DatasheetVersion: Jan-1989; PackageVersion: 1998; PackageReference: FK020; Publisher: Altium Limited; PackageDescription: Leadless Chip Carrier; 20 Terminals; Body 8.9 x 8.9 mm; ComponentLink1Description: Manufacturer Link; ComponentLink1URL: http://www.ti.com/
footprint FK020 (Leadless Chip Carrier; 20 Terminals; Body 8.9 x 8.9 mm)
simulation model SN74F258 (SIMCODE)
signal-integrity model SN54F258FK
pins: 2 ~{A}/B (in), 3 1A (in), 4 1B (in), 5 1Y (hiz), 7 2A (in), 8 2B (in), 9 2Y (hiz), 10 GND (power), 12 3Y (hiz), 13 3B (in), 14 3A (in), 15 4Y (hiz), 17 4B (in), 18 4A (in), 19 ~{OE} (in), 20 VCC (power)

## SN54F258J
designator U?
Quadruple 1-of-2 Data Selector/Multiplexer with 3-State Outputs; Published: 8-Jun-2000; LatestRevisionDate: 04-Mar-2005; LatestRevisionNote: Stylized 3D Model Added.; DatasheetVersion: Jan-1989; PackageVersion: Jun-1999; PackageReference: J016D; Publisher: Altium Limited; PackageDescription: DIP; 16 Leads; Row Spacing 7.62 mm; Pitch 2.54 mm; ComponentLink1Description: Manufacturer Link; ComponentLink1URL: http://www.ti.com/
footprint J016D (DIP; 16 Leads; Row Spacing 7.62 mm; Pitch 2.54 mm)
3D model J016 (DIP; 16 Leads; Row Spacing 7.62 mm; Pitch 2.54 mm)
simulation model SN74F258 (SIMCODE)
signal-integrity model SN54F258J
pins: 1 ~{A}/B (in), 2 1A (in), 3 1B (in), 4 1Y (hiz), 5 2A (in), 6 2B (in), 7 2Y (hiz), 8 GND (power), 9 3Y (hiz), 10 3B (in), 11 3A (in), 12 4Y (hiz), 13 4B (in), 14 4A (in), 15 ~{OE} (in), 16 VCC (power)

## SN54F352FK
designator U?
Dual 4-Line to 1-Line Data Selector/Multiplexer; Note: Pins 1, 6, 11 and 16 are NC & not drawn.; ComponentAvailability: Not Available; Published: 8-Jun-2000; LatestRevisionDate: 17-Jul-2002; LatestRevisionNote: Re-released for DXP Platform.; DatasheetVersion: Jan-1989; PackageVersion: 1998; PackageReference: FK020; Publisher: Altium Limited; PackageDescription: Leadless Chip Carrier; 20 Terminals; Body 8.9 x 8.9 mm; ComponentLink1Description: Manufacturer Link; ComponentLink1URL: http://www.ti.com/; ComponentLink2Description: Datasheet; ComponentLink2URL: http://www-s.ti.com/sc/ds/sn74f352.pdf; ComponentLink3Description: Discontinuation Notice; ComponentLink3URL: http://focus.ti.com/pdfs/mltry/obsolete.pdf
footprint FK020 (Leadless Chip Carrier; 20 Terminals; Body 8.9 x 8.9 mm)
simulation model SN74F352 (SIMCODE)
signal-integrity model SN54F352FK
pins: 2 ~{1OE} (in), 3 B (in), 4 1C3 (in), 5 1C2 (in), 7 1C1 (in), 8 1C0 (in), 9 Y1 (out), 10 GND (power), 12 Y2 (out), 13 2C0 (in), 14 2C1 (in), 15 2C2 (in), 17 2C3 (in), 18 A (in), 19 ~{2OE} (in), 20 VCC (power)

## SN54F352J
designator U?
Dual 4-Line to 1-Line Data Selector/Multiplexer; ComponentAvailability: Not Available; Published: 8-Jun-2000; LatestRevisionDate: 04-Mar-2005; LatestRevisionNote: Stylized 3D Model Added.; DatasheetVersion: Jan-1989; PackageVersion: Jun-1999; PackageReference: J016; Publisher: Altium Limited; PackageDescription: DIP; 16 Leads; Row Spacing 7.62 mm; Pitch 2.54 mm; ComponentLink1Description: Manufacturer Link; ComponentLink1URL: http://www.ti.com/; ComponentLink2Description: Datasheet; ComponentLink2URL: http://www-s.ti.com/sc/ds/sn74f352.pdf; ComponentLink3Description: Discontinuation Notice; ComponentLink3URL: http://focus.ti.com/pdfs/mltry/obsolete.pdf
footprint J016 (DIP; 16 Leads; Row Spacing 7.62 mm; Pitch 2.54 mm)
3D model J016 (DIP; 16 Leads; Row Spacing 7.62 mm; Pitch 2.54 mm)
simulation model SN74F352 (SIMCODE)
signal-integrity model SN54F352J
pins: 1 ~{1OE} (in), 2 B (in), 3 1C3 (in), 4 1C2 (in), 5 1C1 (in), 6 1C0 (in), 7 Y1 (out), 8 GND (power), 9 Y2 (out), 10 2C0 (in), 11 2C1 (in), 12 2C2 (in), 13 2C3 (in), 14 A (in), 15 ~{2OE} (in), 16 VCC (power)

## SN54F353FK
designator U?
Dual 1-of-4 Data Selector/Multiplexer with 3-State Outputs; Note: Pins 1, 6, 11 and 16 are NC & not drawn.; Published: 8-Jun-2000; LatestRevisionDate: 17-Jul-2002; LatestRevisionNote: Re-released for DXP Platform.; DatasheetVersion: Jan-1989; PackageVersion: 1998; PackageReference: FK020; Publisher: Altium Limited; PackageDescription: Leadless Chip Carrier; 20 Terminals; Body 8.9 x 8.9 mm; ComponentLink1Description: Manufacturer Link; ComponentLink1URL: http://www.ti.com/
footprint FK020 (Leadless Chip Carrier; 20 Terminals; Body 8.9 x 8.9 mm)
simulation model SN74F353 (SIMCODE)
signal-integrity model SN54F353FK
pins: 2 ~{1OE} (in), 3 B (in), 4 1C3 (in), 5 1C2 (in), 7 1C1 (in), 8 1C0 (in), 9 Y1 (hiz), 10 GND (power), 12 Y2 (hiz), 13 2C0 (in), 14 2C1 (in), 15 2C2 (in), 17 2C3 (in), 18 A (in), 19 ~{2OE} (in), 20 VCC (power)

## SN54F353J
designator U?
Dual 1-of-4 Data Selector/Multiplexer with 3-State Outputs; Published: 8-Jun-2000; LatestRevisionDate: 04-Mar-2005; LatestRevisionNote: Stylized 3D Model Added.; DatasheetVersion: Jan-1989; PackageVersion: Jun-1999; PackageReference: J016D; Publisher: Altium Limited; PackageDescription: DIP; 16 Leads; Row Spacing 7.62 mm; Pitch 2.54 mm; ComponentLink1Description: Manufacturer Link; ComponentLink1URL: http://www.ti.com/
footprint J016D (DIP; 16 Leads; Row Spacing 7.62 mm; Pitch 2.54 mm)
3D model J016 (DIP; 16 Leads; Row Spacing 7.62 mm; Pitch 2.54 mm)
simulation model SN74F353 (SIMCODE)
signal-integrity model SN54F353J
pins: 1 ~{1OE} (in), 2 B (in), 3 1C3 (in), 4 1C2 (in), 5 1C1 (in), 6 1C0 (in), 7 Y1 (hiz), 8 GND (power), 9 Y2 (hiz), 10 2C0 (in), 11 2C1 (in), 12 2C2 (in), 13 2C3 (in), 14 A (in), 15 ~{2OE} (in), 16 VCC (power)

## SN54HC147FK
designator U?
10-Line to 4-Line Priority Encoder; Note: Pins 1, 6, 11, 16 and 19 are not connected and not drawn; Published: 8-Jun-2000; LatestRevisionDate: 17-Jul-2002; LatestRevisionNote: Re-released for DXP Platform.; DatasheetVersion: Jun-1989; PackageVersion: 1998; PackageReference: FK020; Publisher: Altium Limited; PackageDescription: Leadless Chip Carrier; 20 Terminals; Body 8.9 x 8.9 mm; ComponentLink1Description: Manufacturer Link; ComponentLink1URL: http://www.ti.com/
footprint FK020 (Leadless Chip Carrier; 20 Terminals; Body 8.9 x 8.9 mm)
signal-integrity model SN54HC147FK
pins: 2 I4 (in), 3 I5 (in), 4 I6 (in), 5 I7 (in), 7 I8 (in), 8 C (out), 9 B (out), 10 GND (power), 12 A (out), 13 I9 (in), 14 I1 (in), 15 I2 (in), 17 I3 (in), 18 D (out), 20 VCC (power)

## SN54HC147J
designator U?
10-Line to 4-Line Priority Encoder; Note: Pin 15 is not connected and not drawn; Published: 8-Jun-2000; LatestRevisionDate: 04-Mar-2005; LatestRevisionNote: Stylized 3D Model Added.; DatasheetVersion: Jun-1989; PackageVersion: Jun-1999; PackageReference: J016D; Publisher: Altium Limited; PackageDescription: DIP; 16 Leads; Row Spacing 7.62 mm; Pitch 2.54 mm; ComponentLink1Description: Manufacturer Link; ComponentLink1URL: http://www.ti.com/
footprint J016D (DIP; 16 Leads; Row Spacing 7.62 mm; Pitch 2.54 mm)
3D model J016 (DIP; 16 Leads; Row Spacing 7.62 mm; Pitch 2.54 mm)
signal-integrity model SN54HC147J
pins: 1 I4 (in), 2 I5 (in), 3 I6 (in), 4 I7 (in), 5 I8 (in), 6 C (out), 7 B (out), 8 GND (power), 9 A (out), 10 I9 (in), 11 I1 (in), 12 I2 (in), 13 I3 (in), 14 D (out), 16 VCC (power)

## SN54HC148FK
designator U?
8-Line to 3-Line Priority Encoder; Note: Pins 1, 6, 11 and 16 are not connected and not drawn; Published: 8-Jun-2000; LatestRevisionDate: 17-Jul-2002; LatestRevisionNote: Re-released for DXP Platform.; DatasheetVersion: Jun-1989; PackageVersion: 1998; PackageReference: FK020; Publisher: Altium Limited; PackageDescription: Leadless Chip Carrier; 20 Terminals; Body 8.9 x 8.9 mm; ComponentLink1Description: Manufacturer Link; ComponentLink1URL: http://www.ti.com/; ComponentLink2Description: Datasheet; ComponentLink2URL: http://www-s.ti.com/sc/ds/sn74hc148.pdf
footprint FK020 (Leadless Chip Carrier; 20 Terminals; Body 8.9 x 8.9 mm)
signal-integrity model SN54HC148FK
pins: 2 I4 (in), 3 I5 (in), 4 I6 (in), 5 I7 (in), 7 EI (in), 8 A2 (out), 9 A1 (out), 10 GND (power), 12 A0 (out), 13 I0 (in), 14 I1 (in), 15 I2 (in), 17 I3 (in), 18 GS (out), 19 EO (out), 20 VCC (power)

## SN54HC148J
designator U?
8-Line to 3-Line Priority Encoder; Published: 8-Jun-2000; LatestRevisionDate: 04-Mar-2005; LatestRevisionNote: Stylized 3D Model Added.; DatasheetVersion: Jun-1989; PackageVersion: Jun-1999; PackageReference: J016D; Publisher: Altium Limited; PackageDescription: DIP; 16 Leads; Row Spacing 7.62 mm; Pitch 2.54 mm; ComponentLink1Description: Manufacturer Link; ComponentLink1URL: http://www.ti.com/; ComponentLink2Description: Datasheet; ComponentLink2URL: http://www-s.ti.com/sc/ds/sn74hc148.pdf
footprint J016D (DIP; 16 Leads; Row Spacing 7.62 mm; Pitch 2.54 mm)
3D model J016 (DIP; 16 Leads; Row Spacing 7.62 mm; Pitch 2.54 mm)
signal-integrity model SN54HC148J
pins: 1 I4 (in), 2 I5 (in), 3 I6 (in), 4 I7 (in), 5 EI (in), 6 A2 (out), 7 A1 (out), 8 GND (power), 9 A0 (out), 10 I0 (in), 11 I1 (in), 12 I2 (in), 13 I3 (in), 14 GS (out), 15 EO (out), 16 VCC (power)

## SN54HC151FK
designator U?
8-Line to 1-Line Data Selector/Multiplexer; Note: Pins 1, 6, 11 and 16 are not connected and not drawn; Published: 8-Jun-2000; LatestRevisionDate: 17-Jul-2002; LatestRevisionNote: Re-released for DXP Platform.; DatasheetVersion: May-1997; PackageVersion: 1998; PackageReference: FK020; Publisher: Altium Limited; PackageDescription: Leadless Chip Carrier; 20 Terminals; Body 8.9 x 8.9 mm; ComponentLink1Description: Manufacturer Link; ComponentLink1URL: http://www.ti.com/; ComponentLink2Description: Datasheet; ComponentLink2URL: http://www-s.ti.com/sc/ds/sn74hc151.pdf
footprint FK020 (Leadless Chip Carrier; 20 Terminals; Body 8.9 x 8.9 mm)
signal-integrity model SN54HC151FK
pins: 2 D3 (in), 3 D2 (in), 4 D1 (in), 5 D0 (in), 7 Y (out), 8 W (out), 9 ~{STB} (in), 10 GND (power), 12 C (in), 13 B (in), 14 A (in), 15 D7 (in), 17 D6 (in), 18 D5 (in), 19 D4 (in), 20 VCC (power)

## SN54HC151J
designator U?
8-Line to 1-Line Data Selector/Multiplexer; Published: 8-Jun-2000; LatestRevisionDate: 04-Mar-2005; LatestRevisionNote: Stylized 3D Model Added.; DatasheetVersion: May-1997; PackageVersion: Jun-1999; PackageReference: J016; Publisher: Altium Limited; PackageDescription: DIP; 16 Leads; Row Spacing 7.62 mm; Pitch 2.54 mm; ComponentLink1Description: Manufacturer Link; ComponentLink1URL: http://www.ti.com/; ComponentLink2Description: Datasheet; ComponentLink2URL: http://www-s.ti.com/sc/ds/sn74hc151.pdf
footprint J016 (DIP; 16 Leads; Row Spacing 7.62 mm; Pitch 2.54 mm)
3D model J016 (DIP; 16 Leads; Row Spacing 7.62 mm; Pitch 2.54 mm)
signal-integrity model SN54HC151J
pins: 1 D3 (in), 2 D2 (in), 3 D1 (in), 4 D0 (in), 5 Y (out), 6 W (out), 7 ~{STB} (in), 8 GND (power), 9 C (in), 10 B (in), 11 A (in), 12 D7 (in), 13 D6 (in), 14 D5 (in), 15 D4 (in), 16 VCC (power)

## SN54HC151W
designator U?
8-Line to 1-Line Data Selector/Multiplexer; Published: 8-Jun-2000; LatestRevisionDate: 04-Mar-2005; LatestRevisionNote: Stylized 3D Model Added.; DatasheetVersion: May-1997; PackageVersion: Jan-1995; PackageReference: W016; Publisher: Altium Limited; PackageDescription: DFP; 16 Leads; Body 10.9 x 7.2 mm (LxW max); Pitch 1.27 mm; Code_JEDEC: MO-092-AC; ComponentLink1Description: Manufacturer Link; ComponentLink1URL: http://www.ti.com/; ComponentLink2Description: Datasheet; ComponentLink2URL: http://www-s.ti.com/sc/ds/sn74hc151.pdf
footprint W016 (DFP; 16 Leads; Body 10.9 x 7.2 mm (LxW max); Pitch 1.27 mm)
3D model W016 (DFP; 16 Leads; Body 10.9 x 7.2 mm (LxW max); Pitch 1.27 mm)
signal-integrity model SN54HC151W
pins: 1 D3 (in), 2 D2 (in), 3 D1 (in), 4 D0 (in), 5 Y (out), 6 W (out), 7 ~{STB} (in), 8 GND (power), 9 C (in), 10 B (in), 11 A (in), 12 D7 (in), 13 D6 (in), 14 D5 (in), 15 D4 (in), 16 VCC (power)

## SN54HC152FK
designator U?
8-Line to 1-Line Data Selector/Multiplexer; Note: Pins 1, 5 ,7, 11, 15 and 17 are not connected and not drawn; Published: 8-Jun-2000; LatestRevisionDate: 17-Jul-2002; LatestRevisionNote: Re-released for DXP Platform.; DatasheetVersion: Sep-1987; PackageVersion: 1998; PackageReference: FK020; Publisher: Altium Limited; PackageDescription: Leadless Chip Carrier; 20 Terminals; Body 8.9 x 8.9 mm; ComponentLink1Description: Manufacturer Link; ComponentLink1URL: http://www.ti.com/
footprint FK020 (Leadless Chip Carrier; 20 Terminals; Body 8.9 x 8.9 mm)
signal-integrity model SN54HC152FK
pins: 2 D4 (in), 3 D3 (in), 4 D2 (in), 6 D1 (in), 8 D0 (in), 9 W (out), 10 GND (power), 12 C (in), 13 B (in), 14 A (in), 16 D7 (in), 18 D6 (in), 19 D5 (in), 20 VCC (power)

## SN54HC152J
designator U?
8-Line to 1-Line Data Selector/Multiplexer; Published: 8-Jun-2000; LatestRevisionDate: 04-Mar-2005; LatestRevisionNote: Stylized 3D Model Added.; DatasheetVersion: Sep-1987; PackageVersion: Jun-1999; PackageReference: J014D; Publisher: Altium Limited; PackageDescription: DIP; 14 Leads; Row Spacing 7.62 mm; Pitch 2.54 mm; ComponentLink1Description: Manufacturer Link; ComponentLink1URL: http://www.ti.com/
footprint J014D (DIP; 14 Leads; Row Spacing 7.62 mm; Pitch 2.54 mm)
3D model J014 (DIP; 14 Leads; Row Spacing 7.62 mm; Pitch 2.54 mm)
signal-integrity model SN54HC152J
pins: 1 D4 (in), 2 D3 (in), 3 D2 (in), 4 D1 (in), 5 D0 (in), 6 W (out), 7 GND (power), 8 C (in), 9 B (in), 10 A (in), 11 D7 (in), 12 D6 (in), 13 D5 (in), 14 VCC (power)

## SN54HC153FK
designator U?
Dual 4-Line to 1-Line Data Selector/Multiplexer; Note: Pins No 1,6,11 and 16 are not connected; Published: 8-Jun-2000; LatestRevisionDate: 17-Jul-2002; LatestRevisionNote: Re-released for DXP Platform.; DatasheetVersion: May-1997; PackageVersion: 1998; PackageReference: FK020; Publisher: Altium Limited; PackageDescription: Leadless Chip Carrier; 20 Terminals; Body 8.9 x 8.9 mm; ComponentLink1Description: Manufacturer Link; ComponentLink1URL: http://www.ti.com/; ComponentLink2Description: Datasheet; ComponentLink2URL: http://www-s.ti.com/sc/ds/sn74hc153.pdf
footprint FK020 (Leadless Chip Carrier; 20 Terminals; Body 8.9 x 8.9 mm)
signal-integrity model SN54HC153FK
pins: 2 ~{1OE} (in), 3 B (in), 4 1C3 (in), 5 1C2 (in), 7 1C1 (in), 8 1C0 (in), 9 Y1 (out), 10 GND (power), 12 Y2 (out), 13 2C0 (in), 14 2C1 (in), 15 2C2 (in), 17 2C3 (in), 18 A (in), 19 ~{2OE} (in), 20 VCC (power)

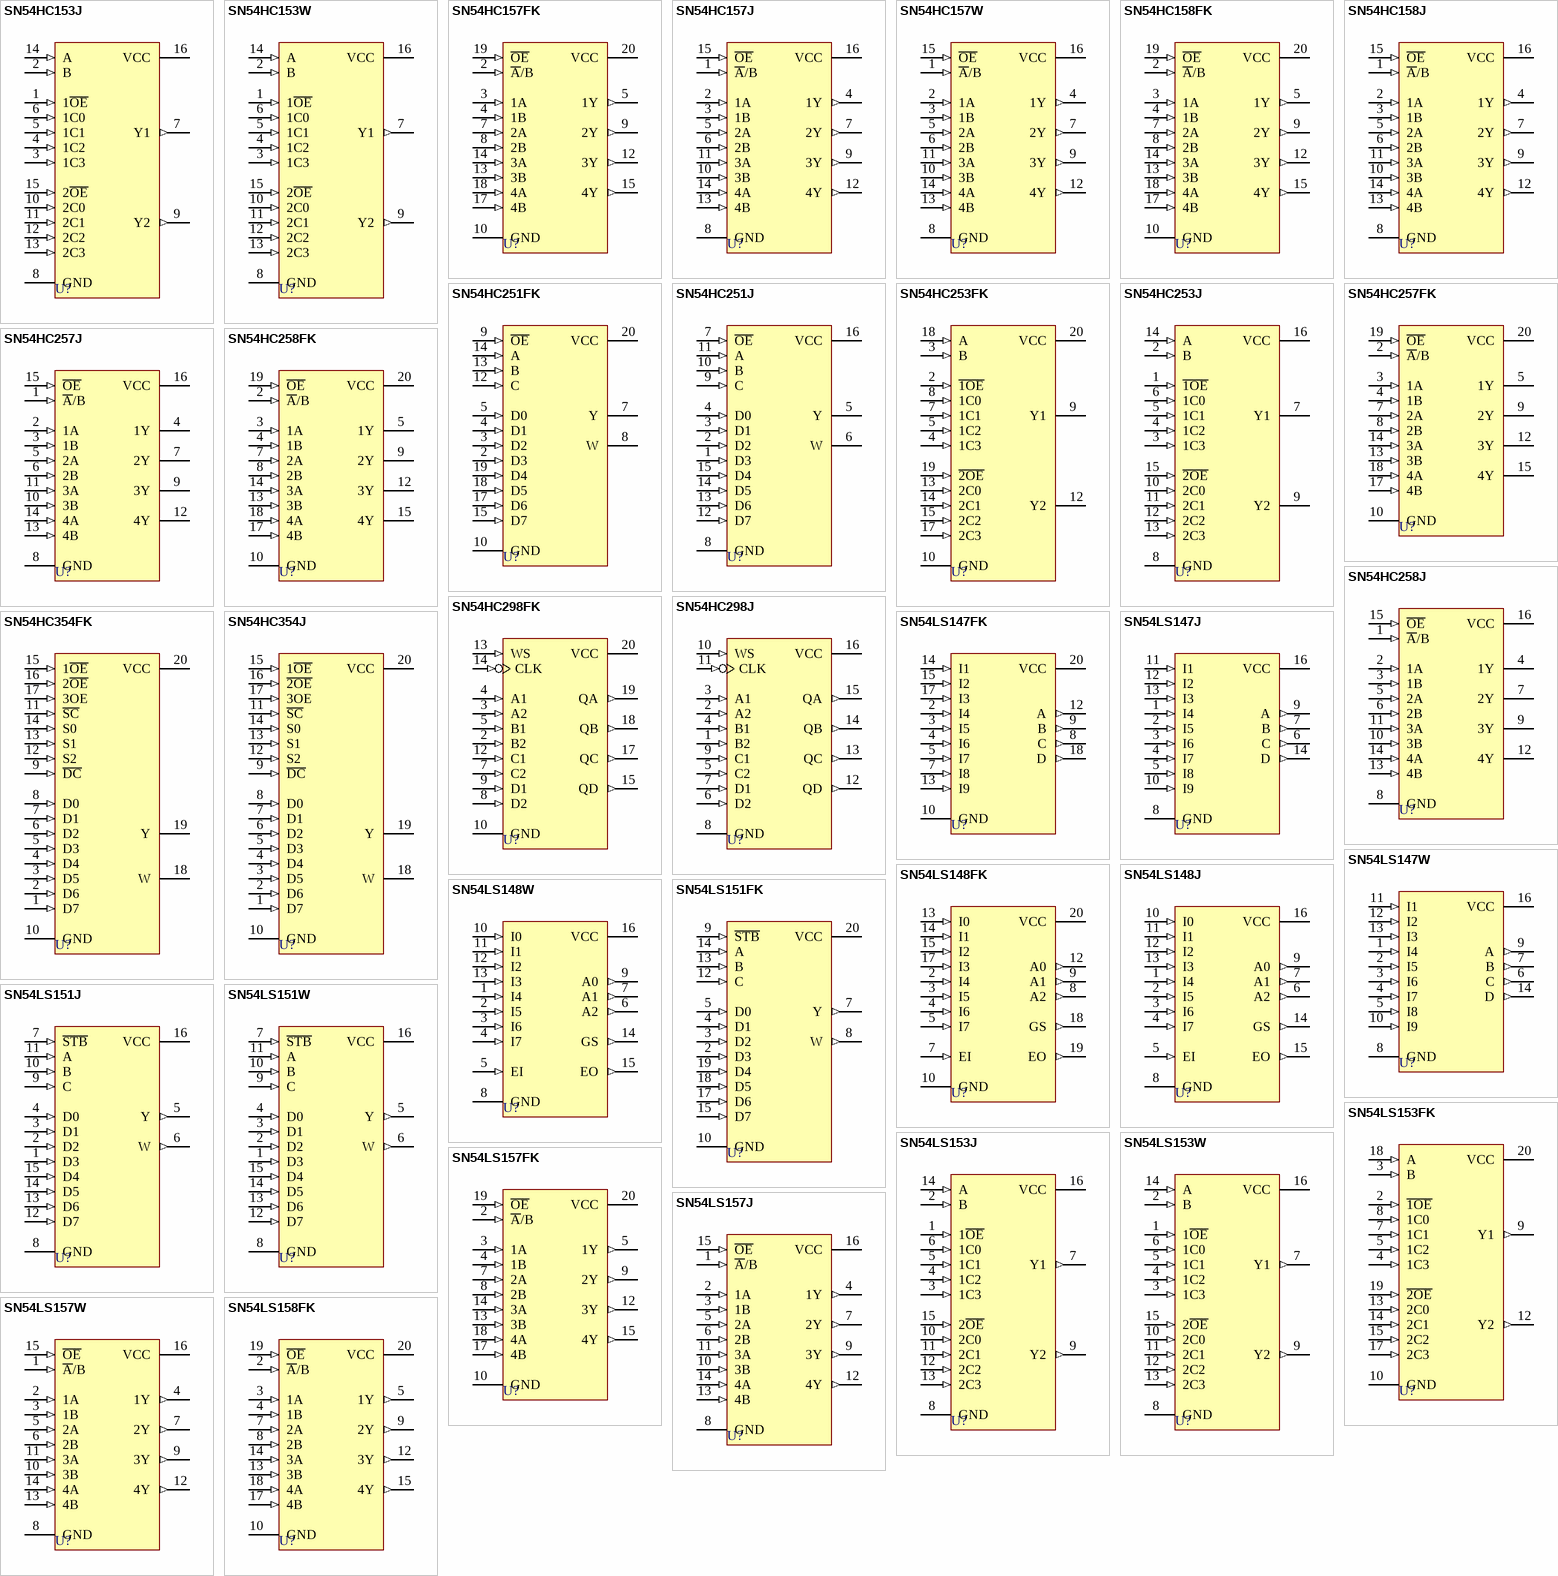
[diagram p5: symbols SN54HC153J to SN54LS158FK]

## SN54HC153J
designator U?
Dual 4-Line to 1-Line Data Selector/Multiplexer; Published: 8-Jun-2000; LatestRevisionDate: 04-Mar-2005; LatestRevisionNote: Stylized 3D Model Added.; DatasheetVersion: May-1997; PackageVersion: Jun-1999; PackageReference: J016; Publisher: Altium Limited; PackageDescription: DIP; 16 Leads; Row Spacing 7.62 mm; Pitch 2.54 mm; ComponentLink1Description: Manufacturer Link; ComponentLink1URL: http://www.ti.com/; ComponentLink2Description: Datasheet; ComponentLink2URL: http://www-s.ti.com/sc/ds/sn74hc153.pdf
footprint J016 (DIP; 16 Leads; Row Spacing 7.62 mm; Pitch 2.54 mm)
3D model J016 (DIP; 16 Leads; Row Spacing 7.62 mm; Pitch 2.54 mm)
signal-integrity model SN54HC153J
pins: 1 1~{OE} (in), 2 B (in), 3 1C3 (in), 4 1C2 (in), 5 1C1 (in), 6 1C0 (in), 7 Y1 (out), 8 GND (power), 9 Y2 (out), 10 2C0 (in), 11 2C1 (in), 12 2C2 (in), 13 2C3 (in), 14 A (in), 15 2~{OE} (in), 16 VCC (power)

## SN54HC153W
designator U?
Dual 4-Line to 1-Line Data Selector/Multiplexer; Published: 8-Jun-2000; LatestRevisionDate: 04-Mar-2005; LatestRevisionNote: Stylized 3D Model Added.; DatasheetVersion: May-1997; PackageVersion: Jan-1995; PackageReference: W016; Publisher: Altium Limited; PackageDescription: DFP; 16 Leads; Body 10.9 x 7.2 mm (LxW max); Pitch 1.27 mm; Code_JEDEC: MO-092-AC; ComponentLink1Description: Manufacturer Link; ComponentLink1URL: http://www.ti.com/; ComponentLink2Description: Datasheet; ComponentLink2URL: http://www-s.ti.com/sc/ds/sn74hc153.pdf
footprint W016 (DFP; 16 Leads; Body 10.9 x 7.2 mm (LxW max); Pitch 1.27 mm)
3D model W016 (DFP; 16 Leads; Body 10.9 x 7.2 mm (LxW max); Pitch 1.27 mm)
signal-integrity model SN54HC153W
pins: 1 1~{OE} (in), 2 B (in), 3 1C3 (in), 4 1C2 (in), 5 1C1 (in), 6 1C0 (in), 7 Y1 (out), 8 GND (power), 9 Y2 (out), 10 2C0 (in), 11 2C1 (in), 12 2C2 (in), 13 2C3 (in), 14 A (in), 15 2~{OE} (in), 16 VCC (power)

## SN54HC157FK
designator U?
Quadraple 2-Line to 1-Line Data Selector/Multiplexer; Note: Pins 1, 6, 11 and 16 are not connected and not drawn; Published: 8-Jun-2000; LatestRevisionDate: 17-Jul-2002; LatestRevisionNote: Re-released for DXP Platform.; DatasheetVersion: May-1997; PackageVersion: 1998; PackageReference: FK020; Publisher: Altium Limited; PackageDescription: Leadless Chip Carrier; 20 Terminals; Body 8.9 x 8.9 mm; ComponentLink1Description: Manufacturer Link; ComponentLink1URL: http://www.ti.com/; ComponentLink2Description: Datasheet; ComponentLink2URL: http://www-s.ti.com/sc/ds/sn74hc157.pdf
footprint FK020 (Leadless Chip Carrier; 20 Terminals; Body 8.9 x 8.9 mm)
signal-integrity model SN54HC157FK
pins: 2 ~{A}/B (in), 3 1A (in), 4 1B (in), 5 1Y (out), 7 2A (in), 8 2B (in), 9 2Y (out), 10 GND (power), 12 3Y (out), 13 3B (in), 14 3A (in), 15 4Y (out), 17 4B (in), 18 4A (in), 19 ~{OE} (in), 20 VCC (power)

## SN54HC157J
designator U?
Quadraple 2-Line to 1-Line Data Selector/Multiplexer; Published: 8-Jun-2000; LatestRevisionDate: 04-Mar-2005; LatestRevisionNote: Stylized 3D Model Added.; DatasheetVersion: May-1997; PackageVersion: Jun-1999; PackageReference: J016; Publisher: Altium Limited; PackageDescription: DIP; 16 Leads; Row Spacing 7.62 mm; Pitch 2.54 mm; ComponentLink1Description: Manufacturer Link; ComponentLink1URL: http://www.ti.com/; ComponentLink2Description: Datasheet; ComponentLink2URL: http://www-s.ti.com/sc/ds/sn74hc157.pdf
footprint J016 (DIP; 16 Leads; Row Spacing 7.62 mm; Pitch 2.54 mm)
3D model J016 (DIP; 16 Leads; Row Spacing 7.62 mm; Pitch 2.54 mm)
signal-integrity model SN54HC157J
pins: 1 ~{A}/B (in), 2 1A (in), 3 1B (in), 4 1Y (out), 5 2A (in), 6 2B (in), 7 2Y (out), 8 GND (power), 9 3Y (out), 10 3B (in), 11 3A (in), 12 4Y (out), 13 4B (in), 14 4A (in), 15 ~{OE} (in), 16 VCC (power)